# EAGLE library part 693043020611 (library Input Output Connectors)
CONN SMART CARD PUSH-PULL Manufacturer's datasheet <https://katalog.we-online.de/em/datasheet/693043020611.pdf>
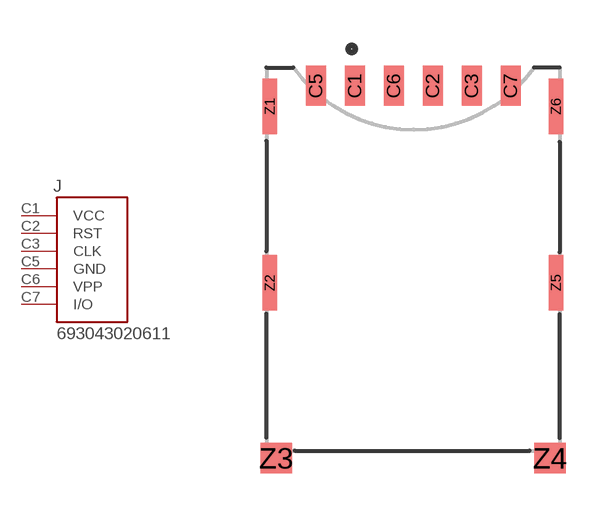
[diagram p2: symbol with the pads of 693043020611; footprint 693043020611]

Designator prefix J

## 693043020611 (CREATED_BY: PCBLayout.com; DIGIKEY_PART_NO: 732-5954-2-ND; MANUFACTURER: Wurth Electronics Inc.; MPN: 693043020611)  [693043020611]
C1  VCC  pwr
C2  RST  in
C3  CLK  in
C5  GND  pwr
C6  VPP  pwr
C7  I/O

## Footprint 693043020611 (pad centres in mm)
smd 0.65 x 1.3: C1 -1.9,0.05; C2 0.64,0.05; C3 1.91,0.05; C5 -3.17,0.05; C6 -0.63,0.05; C7 3.18,0.05
smd 0.48 x 1.8: Z1 -4.67,-0.62; Z2 -4.67,-6.37; Z5 4.66,-6.37; Z6 4.66,-0.62
smd 1.03 x 1: Z3 -4.465,-12.09; Z4 4.465,-12.09